# Altium integrated library NSC Switcher.IntLib: 916 symbols (part 5 of 23)
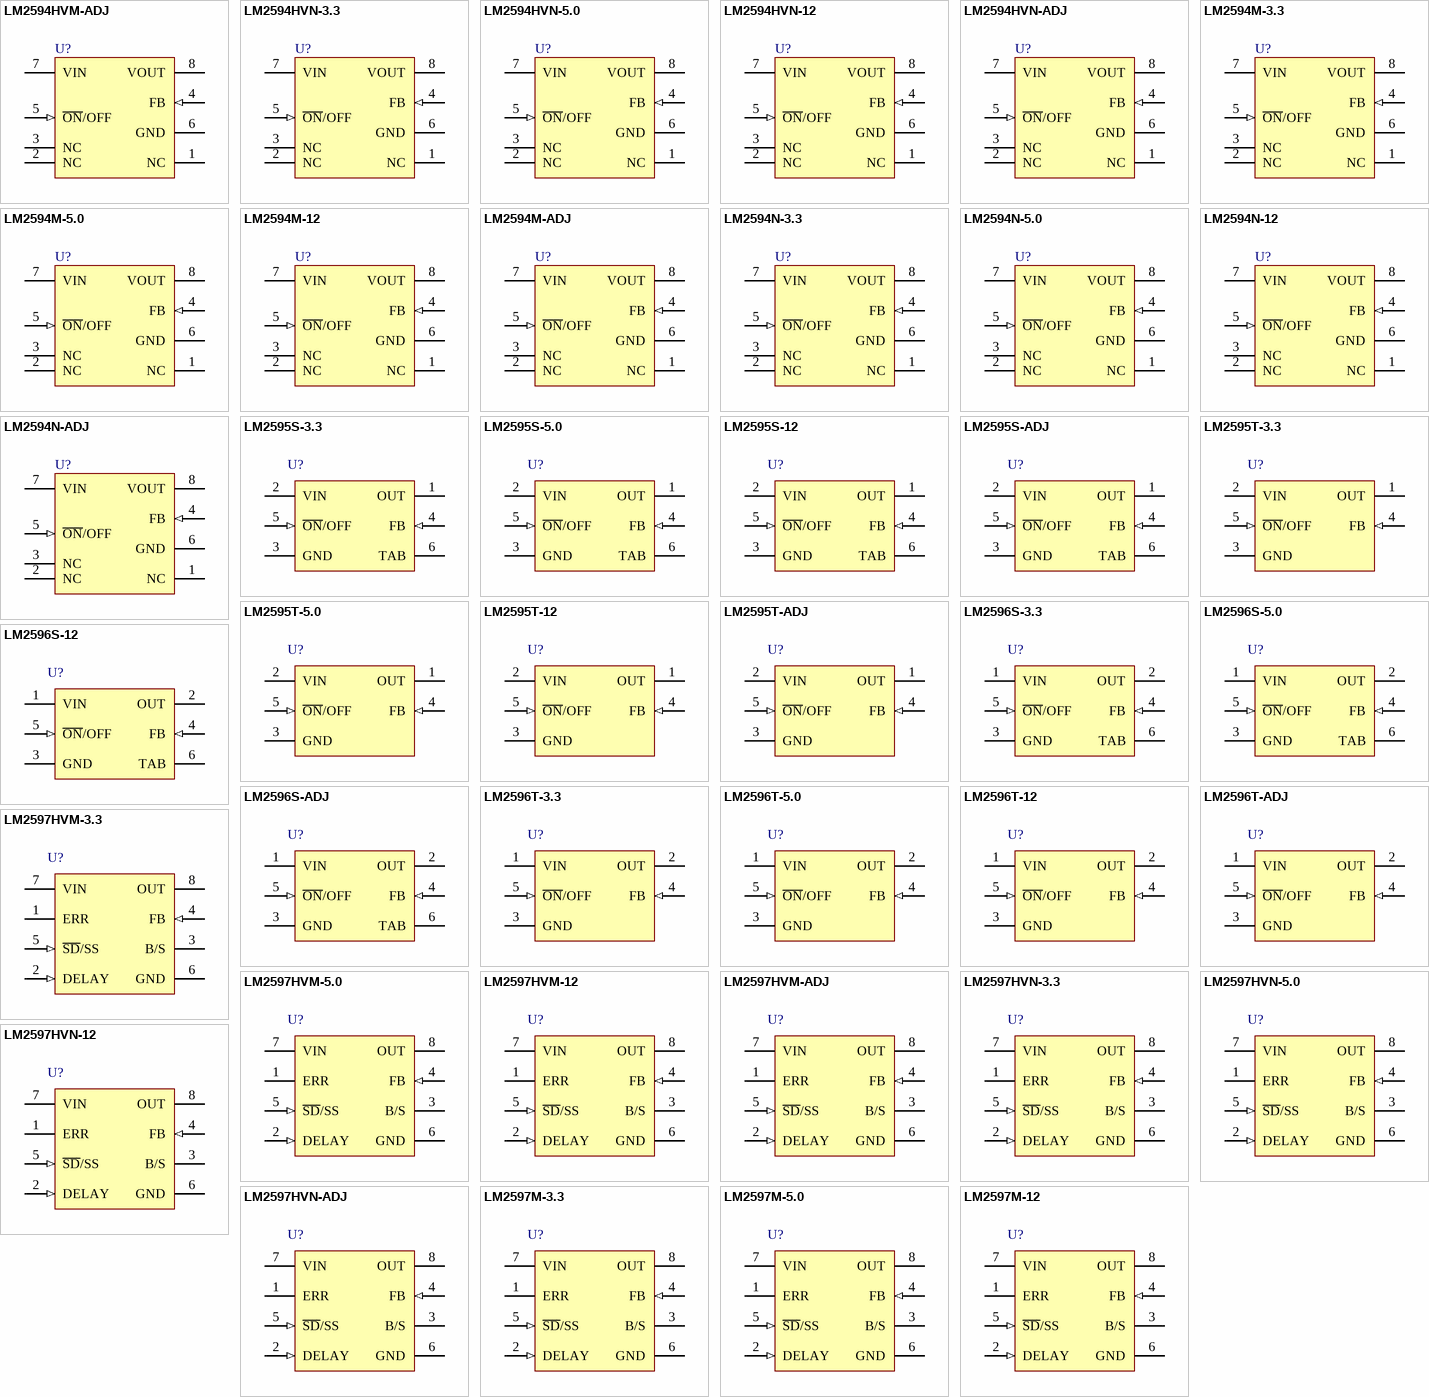
[diagram p32: symbols LM2594HVM-ADJ to LM2597M-12]

## LM2594N-5.0
designator U?
SIMPLE SWITCHER Power Converter 150 KHz 0.5A Step-Down Voltage Regulator; PartNumber: LM2594N-5.0; Manufacturer: National Semiconductor; PackageTopMarking: NSUZXYTT*LM2594N*-5.0 P+; PowerWise: N; Published: 4-Dec-2008; DatasheetVersion: Dec-1999; PackageVersion: revG, May-2006; PackageReference: N08E; Publisher: Altium Limited; PackageDescription: MDIP, .365 x .250 x .130in, 8 Lead, .100in Pitch; CompType: Switcher; RoHS: O; PinCount: 8; DigiKeyPartNumber: LM2594N-5.0-ND; Code_JEDEC: MS-001-BA; ComponentLink1Description: LM2594 Datasheet; ComponentLink1URL: http://www.national.com/ds/LM/LM2594.pdf; ComponentLink2Description: LM2594 Web Page; ComponentLink2URL: http://www.national.com/pf/LM/LM2594.html; ComponentLink3Description: N08E Package Page; ComponentLink3URL: http://www.national.com/packaging/folders/n08e.html
footprint N08E (DIP, 8-Leads, Row Spacing 7.62mm, Pitch 2.54mm, Body 9.91x6.35mm)
pins: 1 NC, 2 NC, 3 NC, 4 FB (in), 5 ~{ON}/OFF (in), 6 GND (power), 7 VIN (power), 8 VOUT (power)

## LM2594N-12
designator U?
SIMPLE SWITCHER Power Converter 150 KHz 0.5A Step-Down Voltage Regulator; PartNumber: LM2594N-12; Manufacturer: National Semiconductor; PackageTopMarking: NSUZXYTT*LM2594N*-12 P+; PowerWise: N; Published: 4-Dec-2008; DatasheetVersion: Dec-1999; PackageVersion: revG, May-2006; PackageReference: N08E; Publisher: Altium Limited; PackageDescription: MDIP, .365 x .250 x .130in, 8 Lead, .100in Pitch; CompType: Switcher; RoHS: O; PinCount: 8; DigiKeyPartNumber: LM2594N-12-ND; Code_JEDEC: MS-001-BA; ComponentLink1Description: LM2594 Datasheet; ComponentLink1URL: http://www.national.com/ds/LM/LM2594.pdf; ComponentLink2Description: LM2594 Web Page; ComponentLink2URL: http://www.national.com/pf/LM/LM2594.html; ComponentLink3Description: N08E Package Page; ComponentLink3URL: http://www.national.com/packaging/folders/n08e.html
footprint N08E (DIP, 8-Leads, Row Spacing 7.62mm, Pitch 2.54mm, Body 9.91x6.35mm)
pins: 1 NC, 2 NC, 3 NC, 4 FB (in), 5 ~{ON}/OFF (in), 6 GND (power), 7 VIN (power), 8 VOUT (power)

## LM2594N-ADJ
designator U?
SIMPLE SWITCHER Power Converter 150 KHz 0.5A Step-Down Voltage Regulator; PartNumber: LM2594N-ADJ; Manufacturer: National Semiconductor; PackageTopMarking: NSUZXYTT*LM2594N*-ADJ P+; PowerWise: N; Published: 4-Dec-2008; DatasheetVersion: Dec-1999; PackageVersion: revG, May-2006; PackageReference: N08E; Publisher: Altium Limited; PackageDescription: MDIP, .365 x .250 x .130in, 8 Lead, .100in Pitch; CompType: Switcher; RoHS: O; PinCount: 8; DigiKeyPartNumber: LM2594N-ADJ-ND; Code_JEDEC: MS-001-BA; ComponentLink1Description: LM2594 Datasheet; ComponentLink1URL: http://www.national.com/ds/LM/LM2594.pdf; ComponentLink2Description: LM2594 Web Page; ComponentLink2URL: http://www.national.com/pf/LM/LM2594.html; ComponentLink3Description: N08E Package Page; ComponentLink3URL: http://www.national.com/packaging/folders/n08e.html
footprint N08E (DIP, 8-Leads, Row Spacing 7.62mm, Pitch 2.54mm, Body 9.91x6.35mm)
pins: 1 NC, 2 NC, 3 NC, 4 FB (in), 5 ~{ON}/OFF (in), 6 GND (power), 7 VIN (power), 8 VOUT (power)

## LM2595S-3.3
designator U?
SIMPLE SWITCHER Power Converter 150 KHz 1A Step-Down Voltage Regulator; PartNumber: LM2595S-3.3; Manufacturer: National Semiconductor; PackageTopMarking: NSUZXYTT*LM2595S*-3.3 P+; PowerWise: N; Published: 4-Dec-2008; DatasheetVersion: May-1999; PackageVersion: revD, Apr-2005; PackageReference: TS5B; Publisher: Altium Limited; PackageDescription: TO-263, Molded, .400 x .390 x .180in, 5 Lead, .067in Pitch, Surface Mount; CompType: Switcher; RoHS: O; PinCount: 5; DigiKeyPartNumber: LM2595S-3.3-ND; Code_JEDEC: MO-169-AB; ComponentLink1Description: LM2595 Datasheet; ComponentLink1URL: http://www.national.com/ds/LM/LM2595.pdf; ComponentLink2Description: LM2595 Web Page; ComponentLink2URL: http://www.national.com/pf/LM/LM2595.html; ComponentLink3Description: TS5B Package Page; ComponentLink3URL: http://www.national.com/packaging/folders/ts5b.html
footprint TS5B_N (D2-PAK, 6-Leads, Body 8.6x10.2mm, Pitch 1.7mm, Lead Span 14.1mm, IPC Medium Density)
footprint TS5B_L (D2-PAK, 6-Leads, Body 8.6x10.2mm, Pitch 1.7mm, Lead Span 14.1mm, IPC High Density)
footprint TS5B_M (D2-PAK, 6-Leads, Body 8.6x10.2mm, Pitch 1.7mm, Lead Span 14.1mm, IPC Low Density)
footprint TS5B_M (D2-PAK, 6-Leads, Body 8.6x10.2mm, Pitch 1.7mm, Lead Span 14.1mm, IPC Low Density)
pins: 1 OUT (power), 2 VIN (power), 3 GND (power), 4 FB (in), 5 ~{ON}/OFF (in), 6 TAB (power)

## LM2595S-5.0
designator U?
SIMPLE SWITCHER Power Converter 150 KHz 1A Step-Down Voltage Regulator; PartNumber: LM2595S-5.0; Manufacturer: National Semiconductor; PackageTopMarking: NSUZXYTT*LM2595S*-5.0 P+; PowerWise: N; Published: 4-Dec-2008; DatasheetVersion: May-1999; PackageVersion: revD, Apr-2005; PackageReference: TS5B; Publisher: Altium Limited; PackageDescription: TO-263, Molded, .400 x .390 x .180in, 5 Lead, .067in Pitch, Surface Mount; CompType: Switcher; RoHS: O; PinCount: 5; DigiKeyPartNumber: LM2595S-5.0-ND; Code_JEDEC: MO-169-AB; ComponentLink1Description: LM2595 Datasheet; ComponentLink1URL: http://www.national.com/ds/LM/LM2595.pdf; ComponentLink2Description: LM2595 Web Page; ComponentLink2URL: http://www.national.com/pf/LM/LM2595.html; ComponentLink3Description: TS5B Package Page; ComponentLink3URL: http://www.national.com/packaging/folders/ts5b.html
footprint TS5B_N (D2-PAK, 6-Leads, Body 8.6x10.2mm, Pitch 1.7mm, Lead Span 14.1mm, IPC Medium Density)
footprint TS5B_L (D2-PAK, 6-Leads, Body 8.6x10.2mm, Pitch 1.7mm, Lead Span 14.1mm, IPC High Density)
footprint TS5B_M (D2-PAK, 6-Leads, Body 8.6x10.2mm, Pitch 1.7mm, Lead Span 14.1mm, IPC Low Density)
footprint TS5B_M (D2-PAK, 6-Leads, Body 8.6x10.2mm, Pitch 1.7mm, Lead Span 14.1mm, IPC Low Density)
pins: 1 OUT (power), 2 VIN (power), 3 GND (power), 4 FB (in), 5 ~{ON}/OFF (in), 6 TAB (power)

## LM2595S-12
designator U?
SIMPLE SWITCHER Power Converter 150 KHz 1A Step-Down Voltage Regulator; PartNumber: LM2595S-12; Manufacturer: National Semiconductor; PackageTopMarking: NSUZXYTT*LM2595S*-12 P+; PowerWise: N; Published: 4-Dec-2008; DatasheetVersion: May-1999; PackageVersion: revD, Apr-2005; PackageReference: TS5B; Publisher: Altium Limited; PackageDescription: TO-263, Molded, .400 x .390 x .180in, 5 Lead, .067in Pitch, Surface Mount; CompType: Switcher; RoHS: O; PinCount: 5; DigiKeyPartNumber: LM2595S-12-ND; Code_JEDEC: MO-169-AB; ComponentLink1Description: LM2595 Datasheet; ComponentLink1URL: http://www.national.com/ds/LM/LM2595.pdf; ComponentLink2Description: LM2595 Web Page; ComponentLink2URL: http://www.national.com/pf/LM/LM2595.html; ComponentLink3Description: TS5B Package Page; ComponentLink3URL: http://www.national.com/packaging/folders/ts5b.html
footprint TS5B_N (D2-PAK, 6-Leads, Body 8.6x10.2mm, Pitch 1.7mm, Lead Span 14.1mm, IPC Medium Density)
footprint TS5B_L (D2-PAK, 6-Leads, Body 8.6x10.2mm, Pitch 1.7mm, Lead Span 14.1mm, IPC High Density)
footprint TS5B_M (D2-PAK, 6-Leads, Body 8.6x10.2mm, Pitch 1.7mm, Lead Span 14.1mm, IPC Low Density)
footprint TS5B_M (D2-PAK, 6-Leads, Body 8.6x10.2mm, Pitch 1.7mm, Lead Span 14.1mm, IPC Low Density)
pins: 1 OUT (power), 2 VIN (power), 3 GND (power), 4 FB (in), 5 ~{ON}/OFF (in), 6 TAB (power)

## LM2595S-ADJ
designator U?
SIMPLE SWITCHER Power Converter 150 KHz 1A Step-Down Voltage Regulator; PartNumber: LM2595S-ADJ; Manufacturer: National Semiconductor; PackageTopMarking: NSUZXYTT*LM2595S*-ADJ P+; PowerWise: N; Published: 4-Dec-2008; DatasheetVersion: May-1999; PackageVersion: revD, Apr-2005; PackageReference: TS5B; Publisher: Altium Limited; PackageDescription: TO-263, Molded, .400 x .390 x .180in, 5 Lead, .067in Pitch, Surface Mount; CompType: Switcher; RoHS: O; PinCount: 5; DigiKeyPartNumber: LM2595S-ADJ-ND; Code_JEDEC: MO-169-AB; ComponentLink1Description: LM2595 Datasheet; ComponentLink1URL: http://www.national.com/ds/LM/LM2595.pdf; ComponentLink2Description: LM2595 Web Page; ComponentLink2URL: http://www.national.com/pf/LM/LM2595.html; ComponentLink3Description: TS5B Package Page; ComponentLink3URL: http://www.national.com/packaging/folders/ts5b.html
footprint TS5B_N (D2-PAK, 6-Leads, Body 8.6x10.2mm, Pitch 1.7mm, Lead Span 14.1mm, IPC Medium Density)
footprint TS5B_L (D2-PAK, 6-Leads, Body 8.6x10.2mm, Pitch 1.7mm, Lead Span 14.1mm, IPC High Density)
footprint TS5B_M (D2-PAK, 6-Leads, Body 8.6x10.2mm, Pitch 1.7mm, Lead Span 14.1mm, IPC Low Density)
footprint TS5B_M (D2-PAK, 6-Leads, Body 8.6x10.2mm, Pitch 1.7mm, Lead Span 14.1mm, IPC Low Density)
pins: 1 OUT (power), 2 VIN (power), 3 GND (power), 4 FB (in), 5 ~{ON}/OFF (in), 6 TAB (power)

## LM2595T-3.3
designator U?
SIMPLE SWITCHER Power Converter 150 KHz 1A Step-Down Voltage Regulator; PartNumber: LM2595T-3.3; Manufacturer: National Semiconductor; PackageTopMarking: NSUZXYTT*LM2595T*-3.3 P+; PowerWise: N; Published: 4-Dec-2008; DatasheetVersion: May-1999; PackageVersion: revA, Oct-1989; PackageReference: T05D; Publisher: Altium Limited; PackageDescription: TO-220, Molded, Stagger Bend, 5 Lead; CompType: Switcher; RoHS: Y; PinCount: 5; DigiKeyPartNumber: LM2595T-3.3-ND; ComponentLink1Description: LM2595 Datasheet; ComponentLink1URL: http://www.national.com/ds/LM/LM2595.pdf; ComponentLink2Description: LM2595 Web Page; ComponentLink2URL: http://www.national.com/pf/LM/LM2595.html; ComponentLink3Description: T05D Package Page; ComponentLink3URL: http://www.national.com/packaging/folders/t05d.html
footprint T05D (TO, Thru-Hole, Vertical, Heatsink Mounted; 5 Bent Staggered Leads; Pitch 1.7 mm)
pins: 1 OUT (power), 2 VIN (power), 3 GND (power), 4 FB (in), 5 ~{ON}/OFF (in)

## LM2595T-5.0
designator U?
SIMPLE SWITCHER Power Converter 150 KHz 1A Step-Down Voltage Regulator; PartNumber: LM2595T-5.0; Manufacturer: National Semiconductor; PackageTopMarking: NSUZXYTT*LM2595T*-5.0 P+; PowerWise: N; Published: 4-Dec-2008; DatasheetVersion: May-1999; PackageVersion: revA, Oct-1989; PackageReference: T05D; Publisher: Altium Limited; PackageDescription: TO-220, Molded, Stagger Bend, 5 Lead; CompType: Switcher; RoHS: O; PinCount: 5; DigiKeyPartNumber: LM2595T-5.0-ND; ComponentLink1Description: LM2595 Datasheet; ComponentLink1URL: http://www.national.com/ds/LM/LM2595.pdf; ComponentLink2Description: LM2595 Web Page; ComponentLink2URL: http://www.national.com/pf/LM/LM2595.html; ComponentLink3Description: T05D Package Page; ComponentLink3URL: http://www.national.com/packaging/folders/t05d.html
footprint T05D (TO, Thru-Hole, Vertical, Heatsink Mounted; 5 Bent Staggered Leads; Pitch 1.7 mm)
pins: 1 OUT (power), 2 VIN (power), 3 GND (power), 4 FB (in), 5 ~{ON}/OFF (in)

## LM2595T-12
designator U?
SIMPLE SWITCHER Power Converter 150 KHz 1A Step-Down Voltage Regulator; PartNumber: LM2595T-12; Manufacturer: National Semiconductor; PackageTopMarking: NSUZXYTT*LM2595T*-12 P+; PowerWise: N; Published: 4-Dec-2008; DatasheetVersion: May-1999; PackageVersion: revA, Oct-1989; PackageReference: T05D; Publisher: Altium Limited; PackageDescription: TO-220, Molded, Stagger Bend, 5 Lead; CompType: Switcher; RoHS: O; PinCount: 5; DigiKeyPartNumber: LM2595T-12-ND; ComponentLink1Description: LM2595 Datasheet; ComponentLink1URL: http://www.national.com/ds/LM/LM2595.pdf; ComponentLink2Description: LM2595 Web Page; ComponentLink2URL: http://www.national.com/pf/LM/LM2595.html; ComponentLink3Description: T05D Package Page; ComponentLink3URL: http://www.national.com/packaging/folders/t05d.html
footprint T05D (TO, Thru-Hole, Vertical, Heatsink Mounted; 5 Bent Staggered Leads; Pitch 1.7 mm)
pins: 1 OUT (power), 2 VIN (power), 3 GND (power), 4 FB (in), 5 ~{ON}/OFF (in)

## LM2595T-ADJ
designator U?
SIMPLE SWITCHER Power Converter 150 KHz 1A Step-Down Voltage Regulator; PartNumber: LM2595T-ADJ; Manufacturer: National Semiconductor; PackageTopMarking: NSUZXYTT*LM2595T*-ADJ P+; PowerWise: N; Published: 4-Dec-2008; DatasheetVersion: May-1999; PackageVersion: revA, Oct-1989; PackageReference: T05D; Publisher: Altium Limited; PackageDescription: TO-220, Molded, Stagger Bend, 5 Lead; CompType: Switcher; RoHS: O; PinCount: 5; DigiKeyPartNumber: LM2595T-ADJ-ND; ComponentLink1Description: LM2595 Datasheet; ComponentLink1URL: http://www.national.com/ds/LM/LM2595.pdf; ComponentLink2Description: LM2595 Web Page; ComponentLink2URL: http://www.national.com/pf/LM/LM2595.html; ComponentLink3Description: T05D Package Page; ComponentLink3URL: http://www.national.com/packaging/folders/t05d.html
footprint T05D (TO, Thru-Hole, Vertical, Heatsink Mounted; 5 Bent Staggered Leads; Pitch 1.7 mm)
pins: 1 OUT (power), 2 VIN (power), 3 GND (power), 4 FB (in), 5 ~{ON}/OFF (in)

## LM2596S-3.3
designator U?
SIMPLE SWITCHER Power Converter 150 KHz 3A Step-Down Voltage Regulator; PartNumber: LM2596S-3.3; Manufacturer: National Semiconductor; PackageTopMarking: NSUZXYTT*LM2596S*-3.3 P+; PowerWise: N; Published: 4-Dec-2008; DatasheetVersion: May-2002; PackageVersion: revD, Apr-2005; PackageReference: TS5B; Publisher: Altium Limited; PackageDescription: TO-263, Molded, .400 x .390 x .180in, 5 Lead, .067in Pitch, Surface Mount; CompType: Switcher; RoHS: O; PinCount: 5; DigiKeyPartNumber: LM2596S-3.3-ND; Code_JEDEC: MO-169-AB; ComponentLink1Description: LM2596 Datasheet; ComponentLink1URL: http://www.national.com/ds/LM/LM2596.pdf; ComponentLink2Description: LM2596 Web Page; ComponentLink2URL: http://www.national.com/pf/LM/LM2596.html; ComponentLink3Description: TS5B Package Page; ComponentLink3URL: http://www.national.com/packaging/folders/ts5b.html
footprint TS5B_N (D2-PAK, 6-Leads, Body 8.6x10.2mm, Pitch 1.7mm, Lead Span 14.1mm, IPC Medium Density)
footprint TS5B_L (D2-PAK, 6-Leads, Body 8.6x10.2mm, Pitch 1.7mm, Lead Span 14.1mm, IPC High Density)
footprint TS5B_M (D2-PAK, 6-Leads, Body 8.6x10.2mm, Pitch 1.7mm, Lead Span 14.1mm, IPC Low Density)
footprint TS5B_M (D2-PAK, 6-Leads, Body 8.6x10.2mm, Pitch 1.7mm, Lead Span 14.1mm, IPC Low Density)
pins: 1 VIN (power), 2 OUT (power), 3 GND (power), 4 FB (in), 5 ~{ON}/OFF (in), 6 TAB (power)

## LM2596S-5.0
designator U?
SIMPLE SWITCHER Power Converter 150 KHz 3A Step-Down Voltage Regulator; PartNumber: LM2596S-5.0; Manufacturer: National Semiconductor; PackageTopMarking: NSUZXYTT*LM2596S*-5.0 P+; PowerWise: N; Published: 4-Dec-2008; DatasheetVersion: May-2002; PackageVersion: revD, Apr-2005; PackageReference: TS5B; Publisher: Altium Limited; PackageDescription: TO-263, Molded, .400 x .390 x .180in, 5 Lead, .067in Pitch, Surface Mount; CompType: Switcher; RoHS: O; PinCount: 5; DigiKeyPartNumber: LM2596S-5.0-ND; Code_JEDEC: MO-169-AB; ComponentLink1Description: LM2596 Datasheet; ComponentLink1URL: http://www.national.com/ds/LM/LM2596.pdf; ComponentLink2Description: LM2596 Web Page; ComponentLink2URL: http://www.national.com/pf/LM/LM2596.html; ComponentLink3Description: TS5B Package Page; ComponentLink3URL: http://www.national.com/packaging/folders/ts5b.html
footprint TS5B_N (D2-PAK, 6-Leads, Body 8.6x10.2mm, Pitch 1.7mm, Lead Span 14.1mm, IPC Medium Density)
footprint TS5B_L (D2-PAK, 6-Leads, Body 8.6x10.2mm, Pitch 1.7mm, Lead Span 14.1mm, IPC High Density)
footprint TS5B_M (D2-PAK, 6-Leads, Body 8.6x10.2mm, Pitch 1.7mm, Lead Span 14.1mm, IPC Low Density)
footprint TS5B_M (D2-PAK, 6-Leads, Body 8.6x10.2mm, Pitch 1.7mm, Lead Span 14.1mm, IPC Low Density)
pins: 1 VIN (power), 2 OUT (power), 3 GND (power), 4 FB (in), 5 ~{ON}/OFF (in), 6 TAB (power)

## LM2596S-12
designator U?
SIMPLE SWITCHER Power Converter 150 KHz 3A Step-Down Voltage Regulator; PartNumber: LM2596S-12; Manufacturer: National Semiconductor; PackageTopMarking: NSUZXYTT*LM2596S*-12 P+; PowerWise: N; Published: 4-Dec-2008; DatasheetVersion: May-2002; PackageVersion: revD, Apr-2005; PackageReference: TS5B; Publisher: Altium Limited; PackageDescription: TO-263, Molded, .400 x .390 x .180in, 5 Lead, .067in Pitch, Surface Mount; CompType: Switcher; RoHS: O; PinCount: 5; DigiKeyPartNumber: LM2596S-12-ND; Code_JEDEC: MO-169-AB; ComponentLink1Description: LM2596 Datasheet; ComponentLink1URL: http://www.national.com/ds/LM/LM2596.pdf; ComponentLink2Description: LM2596 Web Page; ComponentLink2URL: http://www.national.com/pf/LM/LM2596.html; ComponentLink3Description: TS5B Package Page; ComponentLink3URL: http://www.national.com/packaging/folders/ts5b.html
footprint TS5B_N (D2-PAK, 6-Leads, Body 8.6x10.2mm, Pitch 1.7mm, Lead Span 14.1mm, IPC Medium Density)
footprint TS5B_L (D2-PAK, 6-Leads, Body 8.6x10.2mm, Pitch 1.7mm, Lead Span 14.1mm, IPC High Density)
footprint TS5B_M (D2-PAK, 6-Leads, Body 8.6x10.2mm, Pitch 1.7mm, Lead Span 14.1mm, IPC Low Density)
footprint TS5B_M (D2-PAK, 6-Leads, Body 8.6x10.2mm, Pitch 1.7mm, Lead Span 14.1mm, IPC Low Density)
pins: 1 VIN (power), 2 OUT (power), 3 GND (power), 4 FB (in), 5 ~{ON}/OFF (in), 6 TAB (power)

## LM2596S-ADJ
designator U?
SIMPLE SWITCHER Power Converter 150 KHz 3A Step-Down Voltage Regulator; PartNumber: LM2596S-ADJ; Manufacturer: National Semiconductor; PackageTopMarking: NSUZXYTT*LM2596S*-ADJ P+; PowerWise: N; Published: 4-Dec-2008; DatasheetVersion: May-2002; PackageVersion: revD, Apr-2005; PackageReference: TS5B; Publisher: Altium Limited; PackageDescription: TO-263, Molded, .400 x .390 x .180in, 5 Lead, .067in Pitch, Surface Mount; CompType: Switcher; RoHS: O; PinCount: 5; DigiKeyPartNumber: LM2596S-ADJ-ND; Code_JEDEC: MO-169-AB; ComponentLink1Description: LM2596 Datasheet; ComponentLink1URL: http://www.national.com/ds/LM/LM2596.pdf; ComponentLink2Description: LM2596 Web Page; ComponentLink2URL: http://www.national.com/pf/LM/LM2596.html; ComponentLink3Description: TS5B Package Page; ComponentLink3URL: http://www.national.com/packaging/folders/ts5b.html
footprint TS5B_N (D2-PAK, 6-Leads, Body 8.6x10.2mm, Pitch 1.7mm, Lead Span 14.1mm, IPC Medium Density)
footprint TS5B_L (D2-PAK, 6-Leads, Body 8.6x10.2mm, Pitch 1.7mm, Lead Span 14.1mm, IPC High Density)
footprint TS5B_M (D2-PAK, 6-Leads, Body 8.6x10.2mm, Pitch 1.7mm, Lead Span 14.1mm, IPC Low Density)
footprint TS5B_M (D2-PAK, 6-Leads, Body 8.6x10.2mm, Pitch 1.7mm, Lead Span 14.1mm, IPC Low Density)
pins: 1 VIN (power), 2 OUT (power), 3 GND (power), 4 FB (in), 5 ~{ON}/OFF (in), 6 TAB (power)

## LM2596T-3.3
designator U?
SIMPLE SWITCHER Power Converter 150 KHz 3A Step-Down Voltage Regulator; PartNumber: LM2596T-3.3; Manufacturer: National Semiconductor; PackageTopMarking: NSUZXYTT*LM2596T*-3.3 P+; PowerWise: N; Published: 4-Dec-2008; DatasheetVersion: May-2002; PackageVersion: revA, Oct-1989; PackageReference: T05D; Publisher: Altium Limited; PackageDescription: TO-220, Molded, Stagger Bend, 5 Lead; CompType: Switcher; RoHS: Y; PinCount: 5; DigiKeyPartNumber: LM2596T-3.3-ND; ComponentLink1Description: LM2596 Datasheet; ComponentLink1URL: http://www.national.com/ds/LM/LM2596.pdf; ComponentLink2Description: LM2596 Web Page; ComponentLink2URL: http://www.national.com/pf/LM/LM2596.html; ComponentLink3Description: T05D Package Page; ComponentLink3URL: http://www.national.com/packaging/folders/t05d.html
footprint T05D (TO, Thru-Hole, Vertical, Heatsink Mounted; 5 Bent Staggered Leads; Pitch 1.7 mm)
pins: 1 VIN (power), 2 OUT (power), 3 GND (power), 4 FB (in), 5 ~{ON}/OFF (in)

## LM2596T-5.0
designator U?
SIMPLE SWITCHER Power Converter 150 KHz 3A Step-Down Voltage Regulator; PartNumber: LM2596T-5.0; Manufacturer: National Semiconductor; PackageTopMarking: NSUZXYTT*LM2596T*-5.0 P+; PowerWise: N; Published: 4-Dec-2008; DatasheetVersion: May-2002; PackageVersion: revA, Oct-1989; PackageReference: T05D; Publisher: Altium Limited; PackageDescription: TO-220, Molded, Stagger Bend, 5 Lead; CompType: Switcher; RoHS: O; PinCount: 5; DigiKeyPartNumber: LM2596T-5.0-ND; ComponentLink1Description: LM2596 Datasheet; ComponentLink1URL: http://www.national.com/ds/LM/LM2596.pdf; ComponentLink2Description: LM2596 Web Page; ComponentLink2URL: http://www.national.com/pf/LM/LM2596.html; ComponentLink3Description: T05D Package Page; ComponentLink3URL: http://www.national.com/packaging/folders/t05d.html
footprint T05D (TO, Thru-Hole, Vertical, Heatsink Mounted; 5 Bent Staggered Leads; Pitch 1.7 mm)
pins: 1 VIN (power), 2 OUT (power), 3 GND (power), 4 FB (in), 5 ~{ON}/OFF (in)

## LM2596T-12
designator U?
SIMPLE SWITCHER Power Converter 150 KHz 3A Step-Down Voltage Regulator; PartNumber: LM2596T-12; Manufacturer: National Semiconductor; PackageTopMarking: NSUZXYTT*LM2596T*-12 P+; PowerWise: N; Published: 4-Dec-2008; DatasheetVersion: May-2002; PackageVersion: revA, Oct-1989; PackageReference: T05D; Publisher: Altium Limited; PackageDescription: TO-220, Molded, Stagger Bend, 5 Lead; CompType: Switcher; RoHS: O; PinCount: 5; DigiKeyPartNumber: LM2596T-12-ND; ComponentLink1Description: LM2596 Datasheet; ComponentLink1URL: http://www.national.com/ds/LM/LM2596.pdf; ComponentLink2Description: LM2596 Web Page; ComponentLink2URL: http://www.national.com/pf/LM/LM2596.html; ComponentLink3Description: T05D Package Page; ComponentLink3URL: http://www.national.com/packaging/folders/t05d.html
footprint T05D (TO, Thru-Hole, Vertical, Heatsink Mounted; 5 Bent Staggered Leads; Pitch 1.7 mm)
pins: 1 VIN (power), 2 OUT (power), 3 GND (power), 4 FB (in), 5 ~{ON}/OFF (in)

## LM2596T-ADJ
designator U?
SIMPLE SWITCHER Power Converter 150 KHz 3A Step-Down Voltage Regulator; PartNumber: LM2596T-ADJ; Manufacturer: National Semiconductor; PackageTopMarking: NSUZXYTT*LM2596T*-ADJ P+; PowerWise: N; Published: 4-Dec-2008; DatasheetVersion: May-2002; PackageVersion: revA, Oct-1989; PackageReference: T05D; Publisher: Altium Limited; PackageDescription: TO-220, Molded, Stagger Bend, 5 Lead; CompType: Switcher; RoHS: O; PinCount: 5; DigiKeyPartNumber: LM2596T-ADJ-ND; ComponentLink1Description: LM2596 Datasheet; ComponentLink1URL: http://www.national.com/ds/LM/LM2596.pdf; ComponentLink2Description: LM2596 Web Page; ComponentLink2URL: http://www.national.com/pf/LM/LM2596.html; ComponentLink3Description: T05D Package Page; ComponentLink3URL: http://www.national.com/packaging/folders/t05d.html
footprint T05D (TO, Thru-Hole, Vertical, Heatsink Mounted; 5 Bent Staggered Leads; Pitch 1.7 mm)
pins: 1 VIN (power), 2 OUT (power), 3 GND (power), 4 FB (in), 5 ~{ON}/OFF (in)

## LM2597HVM-3.3
designator U?
SIMPLE SWITCHER Power Converter 150 kHz 0.5A Step-Down Voltage Regulator, with Features; PartNumber: LM2597HVM-3.3; Manufacturer: National Semiconductor; PackageTopMarking: NSZXTT*2597H*M-3.3; PowerWise: N; Published: 4-Dec-2008; DatasheetVersion: Dec-2000; PackageVersion: revL, Sep-2006; PackageReference: M08A; Publisher: Altium Limited; PackageDescription: SOIC Narrow, 4.9 x 3.9 x 1.45mm, 8 Lead, 1.27mm Pitch; CompType: Switcher; RoHS: Y; PinCount: 8; DigiKeyPartNumber: LM2597HVM-3.3-ND; Code_JEDEC: MS-012-AA; Code_IPC: SOIC127P600-8; ComponentLink1Description: LM2597HV Datasheet; ComponentLink1URL: http://www.national.com/ds/LM/LM2597HV.pdf; ComponentLink2Description: LM2597HV Web Page; ComponentLink2URL: http://www.national.com/pf/LM/LM2597HV.html; ComponentLink3Description: M08A Package Page; ComponentLink3URL: http://www.national.com/packaging/folders/m08a.html
footprint M08A_N (SOIC, 8-Leads, Body 4.9x3.9mm, Pitch 1.27mm, IPC Medium Density)
footprint M08A_L (SOIC, 8-Leads, Body 4.9x3.9mm, Pitch 1.27mm, IPC High Density)
footprint M08A_M (SOIC, 8-Leads, Body 4.9x3.9mm, Pitch 1.27mm, IPC Low Density)
pins: 1 ERR (oc), 2 DELAY (in), 3 B/S (power), 4 FB (in), 5 ~{SD}/SS (in), 6 GND (power), 7 VIN (power), 8 OUT (power)

## LM2597HVM-5.0
designator U?
SIMPLE SWITCHER Power Converter 150 kHz 0.5A Step-Down Voltage Regulator, with Features; PartNumber: LM2597HVM-5.0; Manufacturer: National Semiconductor; PackageTopMarking: NSZXTT*2597H*M-5.0; PowerWise: N; Published: 4-Dec-2008; DatasheetVersion: Dec-2000; PackageVersion: revL, Sep-2006; PackageReference: M08A; Publisher: Altium Limited; PackageDescription: SOIC Narrow, 4.9 x 3.9 x 1.45mm, 8 Lead, 1.27mm Pitch; CompType: Switcher; RoHS: O; PinCount: 8; DigiKeyPartNumber: LM2597HVM-5.0-ND; Code_JEDEC: MS-012-AA; Code_IPC: SOIC127P600-8; ComponentLink1Description: LM2597HV Datasheet; ComponentLink1URL: http://www.national.com/ds/LM/LM2597HV.pdf; ComponentLink2Description: LM2597HV Web Page; ComponentLink2URL: http://www.national.com/pf/LM/LM2597HV.html; ComponentLink3Description: M08A Package Page; ComponentLink3URL: http://www.national.com/packaging/folders/m08a.html
footprint M08A_N (SOIC, 8-Leads, Body 4.9x3.9mm, Pitch 1.27mm, IPC Medium Density)
footprint M08A_L (SOIC, 8-Leads, Body 4.9x3.9mm, Pitch 1.27mm, IPC High Density)
footprint M08A_M (SOIC, 8-Leads, Body 4.9x3.9mm, Pitch 1.27mm, IPC Low Density)
pins: 1 ERR (oc), 2 DELAY (in), 3 B/S (power), 4 FB (in), 5 ~{SD}/SS (in), 6 GND (power), 7 VIN (power), 8 OUT (power)

## LM2597HVM-12
designator U?
SIMPLE SWITCHER Power Converter 150 kHz 0.5A Step-Down Voltage Regulator, with Features; PartNumber: LM2597HVM-12; Manufacturer: National Semiconductor; PackageTopMarking: NSZXTT*2597H*M-12; PowerWise: N; Published: 4-Dec-2008; DatasheetVersion: Dec-2000; PackageVersion: revL, Sep-2006; PackageReference: M08A; Publisher: Altium Limited; PackageDescription: SOIC Narrow, 4.9 x 3.9 x 1.45mm, 8 Lead, 1.27mm Pitch; CompType: Switcher; RoHS: O; PinCount: 8; DigiKeyPartNumber: LM2597HVM-12-ND; Code_JEDEC: MS-012-AA; Code_IPC: SOIC127P600-8; ComponentLink1Description: LM2597HV Datasheet; ComponentLink1URL: http://www.national.com/ds/LM/LM2597HV.pdf; ComponentLink2Description: LM2597HV Web Page; ComponentLink2URL: http://www.national.com/pf/LM/LM2597HV.html; ComponentLink3Description: M08A Package Page; ComponentLink3URL: http://www.national.com/packaging/folders/m08a.html
footprint M08A_N (SOIC, 8-Leads, Body 4.9x3.9mm, Pitch 1.27mm, IPC Medium Density)
footprint M08A_L (SOIC, 8-Leads, Body 4.9x3.9mm, Pitch 1.27mm, IPC High Density)
footprint M08A_M (SOIC, 8-Leads, Body 4.9x3.9mm, Pitch 1.27mm, IPC Low Density)
pins: 1 ERR (oc), 2 DELAY (in), 3 B/S (power), 4 FB (in), 5 ~{SD}/SS (in), 6 GND (power), 7 VIN (power), 8 OUT (power)

## LM2597HVM-ADJ
designator U?
SIMPLE SWITCHER Power Converter 150 kHz 0.5A Step-Down Voltage Regulator, with Features; PartNumber: LM2597HVM-ADJ; Manufacturer: National Semiconductor; PackageTopMarking: NSZXTT*2597H*M-ADJ; PowerWise: N; Published: 4-Dec-2008; DatasheetVersion: Dec-2000; PackageVersion: revL, Sep-2006; PackageReference: M08A; Publisher: Altium Limited; PackageDescription: SOIC Narrow, 4.9 x 3.9 x 1.45mm, 8 Lead, 1.27mm Pitch; CompType: Switcher; RoHS: O; PinCount: 8; DigiKeyPartNumber: LM2597HVM-ADJ-ND; Code_JEDEC: MS-012-AA; Code_IPC: SOIC127P600-8; ComponentLink1Description: LM2597HV Datasheet; ComponentLink1URL: http://www.national.com/ds/LM/LM2597HV.pdf; ComponentLink2Description: LM2597HV Web Page; ComponentLink2URL: http://www.national.com/pf/LM/LM2597HV.html; ComponentLink3Description: M08A Package Page; ComponentLink3URL: http://www.national.com/packaging/folders/m08a.html
footprint M08A_N (SOIC, 8-Leads, Body 4.9x3.9mm, Pitch 1.27mm, IPC Medium Density)
footprint M08A_L (SOIC, 8-Leads, Body 4.9x3.9mm, Pitch 1.27mm, IPC High Density)
footprint M08A_M (SOIC, 8-Leads, Body 4.9x3.9mm, Pitch 1.27mm, IPC Low Density)
pins: 1 ERR (oc), 2 DELAY (in), 3 B/S (power), 4 FB (in), 5 ~{SD}/SS (in), 6 GND (power), 7 VIN (power), 8 OUT (power)

## LM2597HVN-3.3
designator U?
SIMPLE SWITCHER Power Converter 150 kHz 0.5A Step-Down Voltage Regulator, with Features; PartNumber: LM2597HVN-3.3; Manufacturer: National Semiconductor; PackageTopMarking: NSUZXYTT*LM2597HV*N-3.3 P+; PowerWise: N; Published: 4-Dec-2008; DatasheetVersion: Dec-2000; PackageVersion: revG, May-2006; PackageReference: N08E; Publisher: Altium Limited; PackageDescription: MDIP, .365 x .250 x .130in, 8 Lead, .100in Pitch; CompType: Switcher; RoHS: Y; PinCount: 8; DigiKeyPartNumber: LM2597HVN-3.3-ND; Code_JEDEC: MS-001-BA; ComponentLink1Description: LM2597HV Datasheet; ComponentLink1URL: http://www.national.com/ds/LM/LM2597HV.pdf; ComponentLink2Description: LM2597HV Web Page; ComponentLink2URL: http://www.national.com/pf/LM/LM2597HV.html; ComponentLink3Description: N08E Package Page; ComponentLink3URL: http://www.national.com/packaging/folders/n08e.html
footprint N08E (DIP, 8-Leads, Row Spacing 7.62mm, Pitch 2.54mm, Body 9.91x6.35mm)
pins: 1 ERR (oc), 2 DELAY (in), 3 B/S (power), 4 FB (in), 5 ~{SD}/SS (in), 6 GND (power), 7 VIN (power), 8 OUT (power)

## LM2597HVN-5.0
designator U?
SIMPLE SWITCHER Power Converter 150 kHz 0.5A Step-Down Voltage Regulator, with Features; PartNumber: LM2597HVN-5.0; Manufacturer: National Semiconductor; PackageTopMarking: NSUZXYTT*LM2597HV*N-5.0 P+; PowerWise: N; Published: 4-Dec-2008; DatasheetVersion: Dec-2000; PackageVersion: revG, May-2006; PackageReference: N08E; Publisher: Altium Limited; PackageDescription: MDIP, .365 x .250 x .130in, 8 Lead, .100in Pitch; CompType: Switcher; RoHS: Y; PinCount: 8; DigiKeyPartNumber: LM2597HVN-5.0-ND; Code_JEDEC: MS-001-BA; ComponentLink1Description: LM2597HV Datasheet; ComponentLink1URL: http://www.national.com/ds/LM/LM2597HV.pdf; ComponentLink2Description: LM2597HV Web Page; ComponentLink2URL: http://www.national.com/pf/LM/LM2597HV.html; ComponentLink3Description: N08E Package Page; ComponentLink3URL: http://www.national.com/packaging/folders/n08e.html
footprint N08E (DIP, 8-Leads, Row Spacing 7.62mm, Pitch 2.54mm, Body 9.91x6.35mm)
pins: 1 ERR (oc), 2 DELAY (in), 3 B/S (power), 4 FB (in), 5 ~{SD}/SS (in), 6 GND (power), 7 VIN (power), 8 OUT (power)

## LM2597HVN-12
designator U?
SIMPLE SWITCHER Power Converter 150 kHz 0.5A Step-Down Voltage Regulator, with Features; PartNumber: LM2597HVN-12; Manufacturer: National Semiconductor; PackageTopMarking: NSUZXYTT*LM2597HV*N-12 P+; PowerWise: N; Published: 4-Dec-2008; DatasheetVersion: Dec-2000; PackageVersion: revG, May-2006; PackageReference: N08E; Publisher: Altium Limited; PackageDescription: MDIP, .365 x .250 x .130in, 8 Lead, .100in Pitch; CompType: Switcher; RoHS: Y; PinCount: 8; DigiKeyPartNumber: LM2597HVN-12-ND; Code_JEDEC: MS-001-BA; ComponentLink1Description: LM2597HV Datasheet; ComponentLink1URL: http://www.national.com/ds/LM/LM2597HV.pdf; ComponentLink2Description: LM2597HV Web Page; ComponentLink2URL: http://www.national.com/pf/LM/LM2597HV.html; ComponentLink3Description: N08E Package Page; ComponentLink3URL: http://www.national.com/packaging/folders/n08e.html
footprint N08E (DIP, 8-Leads, Row Spacing 7.62mm, Pitch 2.54mm, Body 9.91x6.35mm)
pins: 1 ERR (oc), 2 DELAY (in), 3 B/S (power), 4 FB (in), 5 ~{SD}/SS (in), 6 GND (power), 7 VIN (power), 8 OUT (power)

## LM2597HVN-ADJ
designator U?
SIMPLE SWITCHER Power Converter 150 kHz 0.5A Step-Down Voltage Regulator, with Features; PartNumber: LM2597HVN-ADJ; Manufacturer: National Semiconductor; PackageTopMarking: NSUZXYTT*LM2597HV*N-ADJ P+; PowerWise: N; Published: 4-Dec-2008; DatasheetVersion: Dec-2000; PackageVersion: revG, May-2006; PackageReference: N08E; Publisher: Altium Limited; PackageDescription: MDIP, .365 x .250 x .130in, 8 Lead, .100in Pitch; CompType: Switcher; RoHS: O; PinCount: 8; DigiKeyPartNumber: LM2597HVN-ADJ-ND; Code_JEDEC: MS-001-BA; ComponentLink1Description: LM2597HV Datasheet; ComponentLink1URL: http://www.national.com/ds/LM/LM2597HV.pdf; ComponentLink2Description: LM2597HV Web Page; ComponentLink2URL: http://www.national.com/pf/LM/LM2597HV.html; ComponentLink3Description: N08E Package Page; ComponentLink3URL: http://www.national.com/packaging/folders/n08e.html
footprint N08E (DIP, 8-Leads, Row Spacing 7.62mm, Pitch 2.54mm, Body 9.91x6.35mm)
pins: 1 ERR (oc), 2 DELAY (in), 3 B/S (power), 4 FB (in), 5 ~{SD}/SS (in), 6 GND (power), 7 VIN (power), 8 OUT (power)

## LM2597M-3.3
designator U?
SIMPLE SWITCHER Power Converter 150 kHz 0.5A Step-Down Voltage Regulator; PartNumber: LM2597M-3.3; Manufacturer: National Semiconductor; PackageTopMarking: NSZXTT*2597*M-3.3; PowerWise: N; Published: 4-Dec-2008; DatasheetVersion: Dec-2000; PackageVersion: revL, Sep-2006; PackageReference: M08A; Publisher: Altium Limited; PackageDescription: SOIC Narrow, 4.9 x 3.9 x 1.45mm, 8 Lead, 1.27mm Pitch; CompType: Switcher; RoHS: Y; PinCount: 8; DigiKeyPartNumber: LM2597M-3.3-ND; Code_JEDEC: MS-012-AA; Code_IPC: SOIC127P600-8; ComponentLink1Description: LM2597 Datasheet; ComponentLink1URL: http://www.national.com/ds/LM/LM2597.pdf; ComponentLink2Description: LM2597 Web Page; ComponentLink2URL: http://www.national.com/pf/LM/LM2597.html; ComponentLink3Description: M08A Package Page; ComponentLink3URL: http://www.national.com/packaging/folders/m08a.html
footprint M08A_N (SOIC, 8-Leads, Body 4.9x3.9mm, Pitch 1.27mm, IPC Medium Density)
footprint M08A_L (SOIC, 8-Leads, Body 4.9x3.9mm, Pitch 1.27mm, IPC High Density)
footprint M08A_M (SOIC, 8-Leads, Body 4.9x3.9mm, Pitch 1.27mm, IPC Low Density)
pins: 1 ERR (oc), 2 DELAY (in), 3 B/S (power), 4 FB (in), 5 ~{SD}/SS (in), 6 GND (power), 7 VIN (power), 8 OUT (power)

## LM2597M-5.0
designator U?
SIMPLE SWITCHER Power Converter 150 kHz 0.5A Step-Down Voltage Regulator; PartNumber: LM2597M-5.0; Manufacturer: National Semiconductor; PackageTopMarking: NSZXTT*2597*M-5.0; PowerWise: N; Published: 4-Dec-2008; DatasheetVersion: Dec-2000; PackageVersion: revL, Sep-2006; PackageReference: M08A; Publisher: Altium Limited; PackageDescription: SOIC Narrow, 4.9 x 3.9 x 1.45mm, 8 Lead, 1.27mm Pitch; CompType: Switcher; RoHS: O; PinCount: 8; DigiKeyPartNumber: LM2597M-5.0-ND; Code_JEDEC: MS-012-AA; Code_IPC: SOIC127P600-8; ComponentLink1Description: LM2597 Datasheet; ComponentLink1URL: http://www.national.com/ds/LM/LM2597.pdf; ComponentLink2Description: LM2597 Web Page; ComponentLink2URL: http://www.national.com/pf/LM/LM2597.html; ComponentLink3Description: M08A Package Page; ComponentLink3URL: http://www.national.com/packaging/folders/m08a.html
footprint M08A_N (SOIC, 8-Leads, Body 4.9x3.9mm, Pitch 1.27mm, IPC Medium Density)
footprint M08A_L (SOIC, 8-Leads, Body 4.9x3.9mm, Pitch 1.27mm, IPC High Density)
footprint M08A_M (SOIC, 8-Leads, Body 4.9x3.9mm, Pitch 1.27mm, IPC Low Density)
pins: 1 ERR (oc), 2 DELAY (in), 3 B/S (power), 4 FB (in), 5 ~{SD}/SS (in), 6 GND (power), 7 VIN (power), 8 OUT (power)

## LM2597M-12
designator U?
SIMPLE SWITCHER Power Converter 150 kHz 0.5A Step-Down Voltage Regulator; PartNumber: LM2597M-12; Manufacturer: National Semiconductor; PackageTopMarking: NSZXTT*2597*M-12; PowerWise: N; Published: 4-Dec-2008; DatasheetVersion: Dec-2000; PackageVersion: revL, Sep-2006; PackageReference: M08A; Publisher: Altium Limited; PackageDescription: SOIC Narrow, 4.9 x 3.9 x 1.45mm, 8 Lead, 1.27mm Pitch; CompType: Switcher; RoHS: Y; PinCount: 8; DigiKeyPartNumber: LM2597M-12-ND; Code_JEDEC: MS-012-AA; Code_IPC: SOIC127P600-8; ComponentLink1Description: LM2597 Datasheet; ComponentLink1URL: http://www.national.com/ds/LM/LM2597.pdf; ComponentLink2Description: LM2597 Web Page; ComponentLink2URL: http://www.national.com/pf/LM/LM2597.html; ComponentLink3Description: M08A Package Page; ComponentLink3URL: http://www.national.com/packaging/folders/m08a.html
footprint M08A_N (SOIC, 8-Leads, Body 4.9x3.9mm, Pitch 1.27mm, IPC Medium Density)
footprint M08A_L (SOIC, 8-Leads, Body 4.9x3.9mm, Pitch 1.27mm, IPC High Density)
footprint M08A_M (SOIC, 8-Leads, Body 4.9x3.9mm, Pitch 1.27mm, IPC Low Density)
pins: 1 ERR (oc), 2 DELAY (in), 3 B/S (power), 4 FB (in), 5 ~{SD}/SS (in), 6 GND (power), 7 VIN (power), 8 OUT (power)

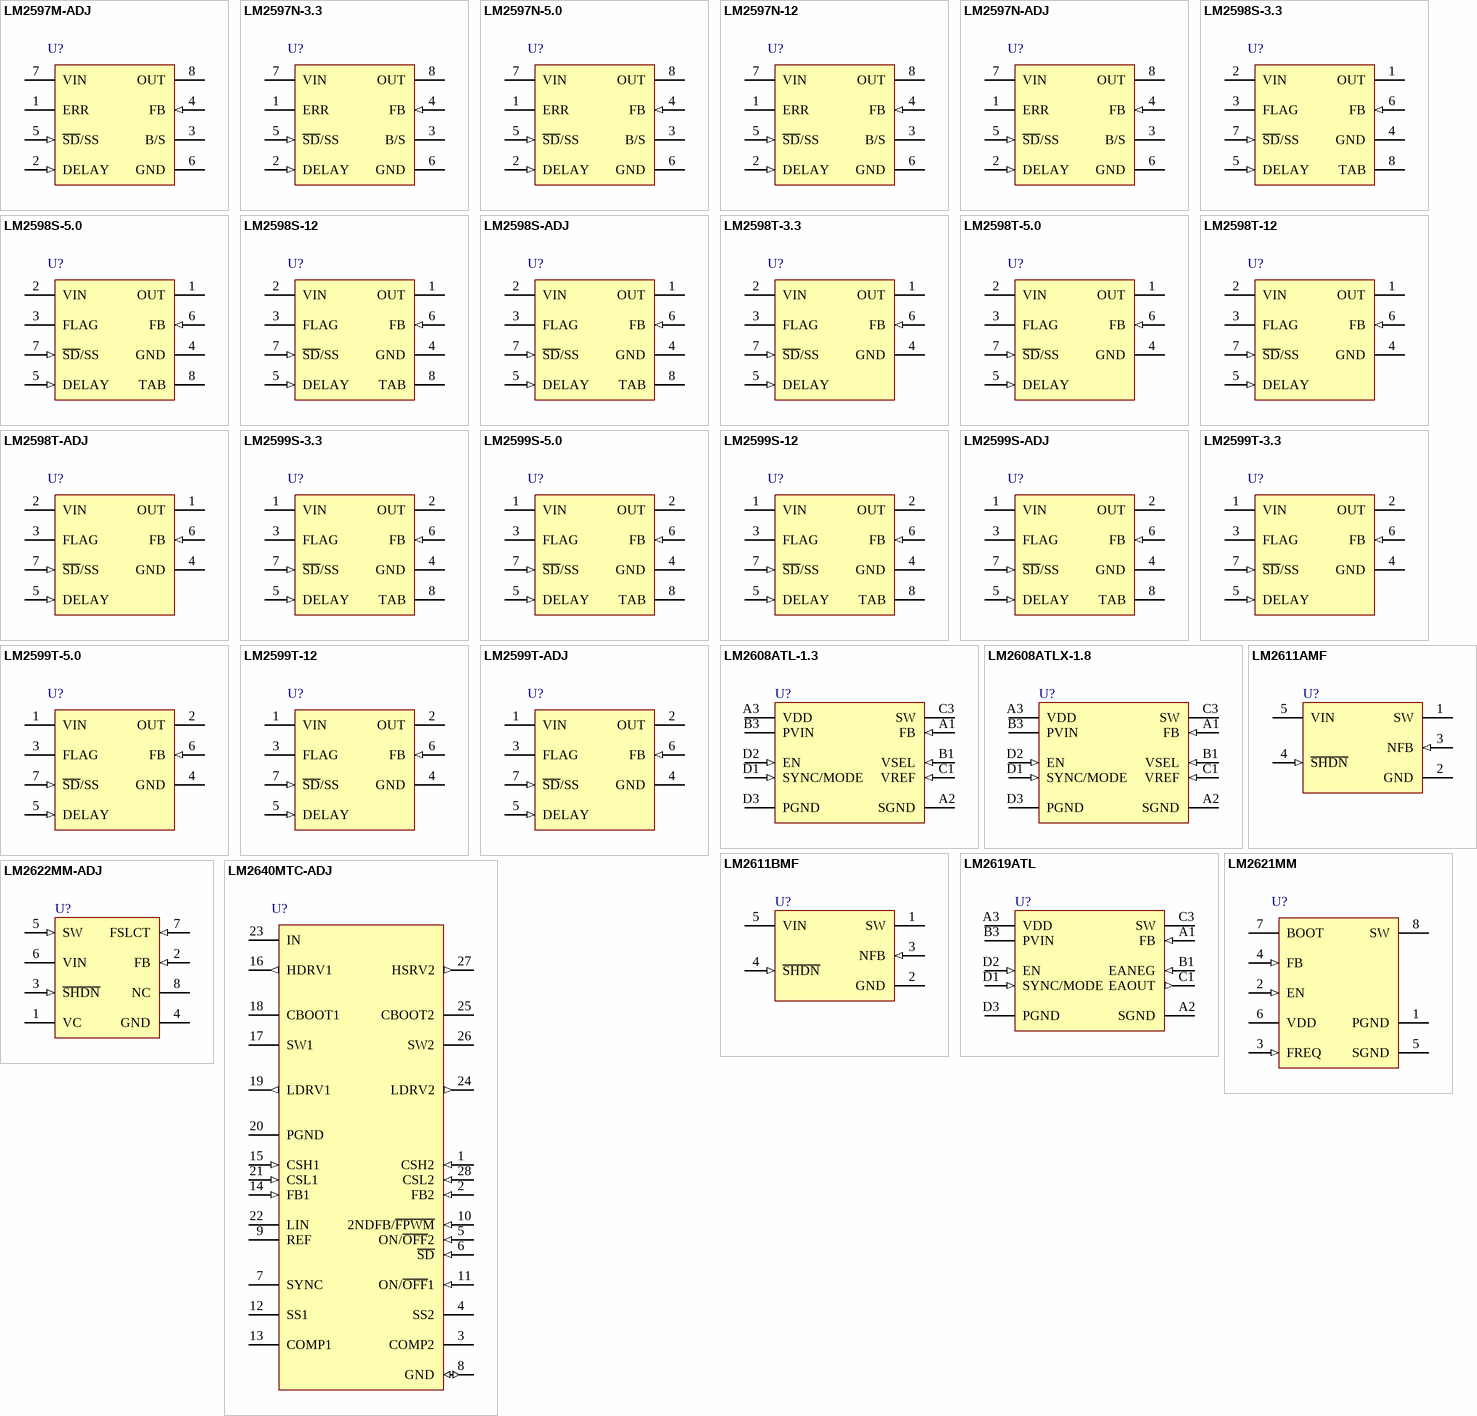
[diagram p5: symbols LM2597M-ADJ to LM2640MTC-ADJ]

## LM2597M-ADJ
designator U?
SIMPLE SWITCHER Power Converter 150 kHz 0.5A Step-Down Voltage Regulator; PartNumber: LM2597M-ADJ; Manufacturer: National Semiconductor; PackageTopMarking: NSZXTT*2597*M-ADJ; PowerWise: N; Published: 4-Dec-2008; DatasheetVersion: Dec-2000; PackageVersion: revL, Sep-2006; PackageReference: M08A; Publisher: Altium Limited; PackageDescription: SOIC Narrow, 4.9 x 3.9 x 1.45mm, 8 Lead, 1.27mm Pitch; CompType: Switcher; RoHS: Y; PinCount: 8; DigiKeyPartNumber: LM2597M-ADJ-ND; Code_JEDEC: MS-012-AA; Code_IPC: SOIC127P600-8; ComponentLink1Description: LM2597 Datasheet; ComponentLink1URL: http://www.national.com/ds/LM/LM2597.pdf; ComponentLink2Description: LM2597 Web Page; ComponentLink2URL: http://www.national.com/pf/LM/LM2597.html; ComponentLink3Description: M08A Package Page; ComponentLink3URL: http://www.national.com/packaging/folders/m08a.html
footprint M08A_N (SOIC, 8-Leads, Body 4.9x3.9mm, Pitch 1.27mm, IPC Medium Density)
footprint M08A_L (SOIC, 8-Leads, Body 4.9x3.9mm, Pitch 1.27mm, IPC High Density)
footprint M08A_M (SOIC, 8-Leads, Body 4.9x3.9mm, Pitch 1.27mm, IPC Low Density)
pins: 1 ERR (oc), 2 DELAY (in), 3 B/S (power), 4 FB (in), 5 ~{SD}/SS (in), 6 GND (power), 7 VIN (power), 8 OUT (power)

## LM2597N-3.3
designator U?
SIMPLE SWITCHER Power Converter 150 kHz 0.5A Step-Down Voltage Regulator; PartNumber: LM2597N-3.3; Manufacturer: National Semiconductor; PackageTopMarking: NSUZXYTT*LM2597N*-3.3 P+; PowerWise: N; Published: 4-Dec-2008; DatasheetVersion: Dec-2000; PackageVersion: revG, May-2006; PackageReference: N08E; Publisher: Altium Limited; PackageDescription: MDIP, .365 x .250 x .130in, 8 Lead, .100in Pitch; CompType: Switcher; RoHS: Y; PinCount: 8; DigiKeyPartNumber: LM2597N-3.3-ND; Code_JEDEC: MS-001-BA; ComponentLink1Description: LM2597 Datasheet; ComponentLink1URL: http://www.national.com/ds/LM/LM2597.pdf; ComponentLink2Description: LM2597 Web Page; ComponentLink2URL: http://www.national.com/pf/LM/LM2597.html; ComponentLink3Description: N08E Package Page; ComponentLink3URL: http://www.national.com/packaging/folders/n08e.html
footprint N08E (DIP, 8-Leads, Row Spacing 7.62mm, Pitch 2.54mm, Body 9.91x6.35mm)
pins: 1 ERR (oc), 2 DELAY (in), 3 B/S (power), 4 FB (in), 5 ~{SD}/SS (in), 6 GND (power), 7 VIN (power), 8 OUT (power)

## LM2597N-5.0
designator U?
SIMPLE SWITCHER Power Converter 150 kHz 0.5A Step-Down Voltage Regulator; PartNumber: LM2597N-5.0; Manufacturer: National Semiconductor; PackageTopMarking: NSUZXYTT*LM2597N*-5.0 P+; PowerWise: N; Published: 4-Dec-2008; DatasheetVersion: Dec-2000; PackageVersion: revG, May-2006; PackageReference: N08E; Publisher: Altium Limited; PackageDescription: MDIP, .365 x .250 x .130in, 8 Lead, .100in Pitch; CompType: Switcher; RoHS: O; PinCount: 8; DigiKeyPartNumber: LM2597N-5.0-ND; Code_JEDEC: MS-001-BA; ComponentLink1Description: LM2597 Datasheet; ComponentLink1URL: http://www.national.com/ds/LM/LM2597.pdf; ComponentLink2Description: LM2597 Web Page; ComponentLink2URL: http://www.national.com/pf/LM/LM2597.html; ComponentLink3Description: N08E Package Page; ComponentLink3URL: http://www.national.com/packaging/folders/n08e.html
footprint N08E (DIP, 8-Leads, Row Spacing 7.62mm, Pitch 2.54mm, Body 9.91x6.35mm)
pins: 1 ERR (oc), 2 DELAY (in), 3 B/S (power), 4 FB (in), 5 ~{SD}/SS (in), 6 GND (power), 7 VIN (power), 8 OUT (power)

## LM2597N-12
designator U?
SIMPLE SWITCHER Power Converter 150 kHz 0.5A Step-Down Voltage Regulator; PartNumber: LM2597N-12; Manufacturer: National Semiconductor; PackageTopMarking: NSUZXYTT*LM2597N*-12 P+; PowerWise: N; Published: 4-Dec-2008; DatasheetVersion: Dec-2000; PackageVersion: revG, May-2006; PackageReference: N08E; Publisher: Altium Limited; PackageDescription: MDIP, .365 x .250 x .130in, 8 Lead, .100in Pitch; CompType: Switcher; RoHS: Y; PinCount: 8; DigiKeyPartNumber: LM2597N-12-ND; Code_JEDEC: MS-001-BA; ComponentLink1Description: LM2597 Datasheet; ComponentLink1URL: http://www.national.com/ds/LM/LM2597.pdf; ComponentLink2Description: LM2597 Web Page; ComponentLink2URL: http://www.national.com/pf/LM/LM2597.html; ComponentLink3Description: N08E Package Page; ComponentLink3URL: http://www.national.com/packaging/folders/n08e.html
footprint N08E (DIP, 8-Leads, Row Spacing 7.62mm, Pitch 2.54mm, Body 9.91x6.35mm)
pins: 1 ERR (oc), 2 DELAY (in), 3 B/S (power), 4 FB (in), 5 ~{SD}/SS (in), 6 GND (power), 7 VIN (power), 8 OUT (power)

## LM2597N-ADJ
designator U?
SIMPLE SWITCHER Power Converter 150 kHz 0.5A Step-Down Voltage Regulator; PartNumber: LM2597N-ADJ; Manufacturer: National Semiconductor; PackageTopMarking: NSUZXYTT*LM2597N*-ADJ P+; PowerWise: N; Published: 4-Dec-2008; DatasheetVersion: Dec-2000; PackageVersion: revG, May-2006; PackageReference: N08E; Publisher: Altium Limited; PackageDescription: MDIP, .365 x .250 x .130in, 8 Lead, .100in Pitch; CompType: Switcher; RoHS: O; PinCount: 8; DigiKeyPartNumber: LM2597N-ADJ-ND; Code_JEDEC: MS-001-BA; ComponentLink1Description: LM2597 Datasheet; ComponentLink1URL: http://www.national.com/ds/LM/LM2597.pdf; ComponentLink2Description: LM2597 Web Page; ComponentLink2URL: http://www.national.com/pf/LM/LM2597.html; ComponentLink3Description: N08E Package Page; ComponentLink3URL: http://www.national.com/packaging/folders/n08e.html
footprint N08E (DIP, 8-Leads, Row Spacing 7.62mm, Pitch 2.54mm, Body 9.91x6.35mm)
pins: 1 ERR (oc), 2 DELAY (in), 3 B/S (power), 4 FB (in), 5 ~{SD}/SS (in), 6 GND (power), 7 VIN (power), 8 OUT (power)

## LM2598S-3.3
designator U?
SIMPLE SWITCHER Power Converter 150 KHz 1A Step-Down Voltage Regulator, with Features; PartNumber: LM2598S-3.3; Manufacturer: National Semiconductor; PackageTopMarking: NSUZXYTT*LM2598S*-3.3 P+; PowerWise: N; Published: 4-Dec-2008; DatasheetVersion: Jan-2001; PackageVersion: revE, Jul-2003; PackageReference: TS7B; Publisher: Altium Limited; PackageDescription: TO-263, Molded, .400 x .390 x .180in Body, 7 Lead, .050in Pitch, Surface Mount; CompType: Switcher; RoHS: Y; PinCount: 7; DigiKeyPartNumber: LM2598S-3.3-ND; Code_JEDEC: MO-169-AC; ComponentLink1Description: LM2598 Datasheet; ComponentLink1URL: http://www.national.com/ds/LM/LM2598.pdf; ComponentLink2Description: LM2598 Web Page; ComponentLink2URL: http://www.national.com/pf/LM/LM2598.html; ComponentLink3Description: TS7B Package Page; ComponentLink3URL: http://www.national.com/packaging/folders/ts7b.html
footprint TS7B_N (D2-PAK, 8-Leads, Body 8.6x10.2mm, Pitch 1.27mm, Lead Span 14.1mm, IPC Medium Density)
footprint TS7B_L (D2-PAK, 8-Leads, Body 8.6x10.2mm, Pitch 1.27mm, Lead Span 14.1mm, IPC High Density)
footprint TS7B_M (D2-PAK, 8-Leads, Body 8.6x10.2mm, Pitch 1.27mm, Lead Span 14.1mm, IPC Low Density)
footprint TS7B_M (D2-PAK, 8-Leads, Body 8.6x10.2mm, Pitch 1.27mm, Lead Span 14.1mm, IPC Low Density)
pins: 1 OUT (power), 2 VIN (power), 3 FLAG (oc), 4 GND (power), 5 DELAY (in), 6 FB (in), 7 ~{SD}/SS (in), 8 TAB (power)

## LM2598S-5.0
designator U?
SIMPLE SWITCHER Power Converter 150 KHz 1A Step-Down Voltage Regulator, with Features; PartNumber: LM2598S-5.0; Manufacturer: National Semiconductor; PackageTopMarking: NSUZXYTT*LM2598S*-5.0 P+; PowerWise: N; Published: 4-Dec-2008; DatasheetVersion: Jan-2001; PackageVersion: revE, Jul-2003; PackageReference: TS7B; Publisher: Altium Limited; PackageDescription: TO-263, Molded, .400 x .390 x .180in Body, 7 Lead, .050in Pitch, Surface Mount; CompType: Switcher; RoHS: O; PinCount: 7; DigiKeyPartNumber: LM2598S-5.0-ND; Code_JEDEC: MO-169-AC; ComponentLink1Description: LM2598 Datasheet; ComponentLink1URL: http://www.national.com/ds/LM/LM2598.pdf; ComponentLink2Description: LM2598 Web Page; ComponentLink2URL: http://www.national.com/pf/LM/LM2598.html; ComponentLink3Description: TS7B Package Page; ComponentLink3URL: http://www.national.com/packaging/folders/ts7b.html
footprint TS7B_N (D2-PAK, 8-Leads, Body 8.6x10.2mm, Pitch 1.27mm, Lead Span 14.1mm, IPC Medium Density)
footprint TS7B_L (D2-PAK, 8-Leads, Body 8.6x10.2mm, Pitch 1.27mm, Lead Span 14.1mm, IPC High Density)
footprint TS7B_M (D2-PAK, 8-Leads, Body 8.6x10.2mm, Pitch 1.27mm, Lead Span 14.1mm, IPC Low Density)
footprint TS7B_M (D2-PAK, 8-Leads, Body 8.6x10.2mm, Pitch 1.27mm, Lead Span 14.1mm, IPC Low Density)
pins: 1 OUT (power), 2 VIN (power), 3 FLAG (oc), 4 GND (power), 5 DELAY (in), 6 FB (in), 7 ~{SD}/SS (in), 8 TAB (power)

## LM2598S-12
designator U?
SIMPLE SWITCHER Power Converter 150 KHz 1A Step-Down Voltage Regulator, with Features; PartNumber: LM2598S-12; Manufacturer: National Semiconductor; PackageTopMarking: NSUZXYTT*LM2598S*-12 P+; PowerWise: N; Published: 4-Dec-2008; DatasheetVersion: Jan-2001; PackageVersion: revE, Jul-2003; PackageReference: TS7B; Publisher: Altium Limited; PackageDescription: TO-263, Molded, .400 x .390 x .180in Body, 7 Lead, .050in Pitch, Surface Mount; CompType: Switcher; RoHS: Y; PinCount: 7; DigiKeyPartNumber: LM2598S-12-ND; Code_JEDEC: MO-169-AC; ComponentLink1Description: LM2598 Datasheet; ComponentLink1URL: http://www.national.com/ds/LM/LM2598.pdf; ComponentLink2Description: LM2598 Web Page; ComponentLink2URL: http://www.national.com/pf/LM/LM2598.html; ComponentLink3Description: TS7B Package Page; ComponentLink3URL: http://www.national.com/packaging/folders/ts7b.html
footprint TS7B_N (D2-PAK, 8-Leads, Body 8.6x10.2mm, Pitch 1.27mm, Lead Span 14.1mm, IPC Medium Density)
footprint TS7B_L (D2-PAK, 8-Leads, Body 8.6x10.2mm, Pitch 1.27mm, Lead Span 14.1mm, IPC High Density)
footprint TS7B_M (D2-PAK, 8-Leads, Body 8.6x10.2mm, Pitch 1.27mm, Lead Span 14.1mm, IPC Low Density)
footprint TS7B_M (D2-PAK, 8-Leads, Body 8.6x10.2mm, Pitch 1.27mm, Lead Span 14.1mm, IPC Low Density)
pins: 1 OUT (power), 2 VIN (power), 3 FLAG (oc), 4 GND (power), 5 DELAY (in), 6 FB (in), 7 ~{SD}/SS (in), 8 TAB (power)

## LM2598S-ADJ
designator U?
SIMPLE SWITCHER Power Converter 150 KHz 1A Step-Down Voltage Regulator, with Features; PartNumber: LM2598S-ADJ; Manufacturer: National Semiconductor; PackageTopMarking: NSUZXYTT*LM2598S*-ADJ P+; PowerWise: N; Published: 4-Dec-2008; DatasheetVersion: Jan-2001; PackageVersion: revE, Jul-2003; PackageReference: TS7B; Publisher: Altium Limited; PackageDescription: TO-263, Molded, .400 x .390 x .180in Body, 7 Lead, .050in Pitch, Surface Mount; CompType: Switcher; RoHS: O; PinCount: 7; DigiKeyPartNumber: LM2598S-ADJ-ND; Code_JEDEC: MO-169-AC; ComponentLink1Description: LM2598 Datasheet; ComponentLink1URL: http://www.national.com/ds/LM/LM2598.pdf; ComponentLink2Description: LM2598 Web Page; ComponentLink2URL: http://www.national.com/pf/LM/LM2598.html; ComponentLink3Description: TS7B Package Page; ComponentLink3URL: http://www.national.com/packaging/folders/ts7b.html
footprint TS7B_N (D2-PAK, 8-Leads, Body 8.6x10.2mm, Pitch 1.27mm, Lead Span 14.1mm, IPC Medium Density)
footprint TS7B_L (D2-PAK, 8-Leads, Body 8.6x10.2mm, Pitch 1.27mm, Lead Span 14.1mm, IPC High Density)
footprint TS7B_M (D2-PAK, 8-Leads, Body 8.6x10.2mm, Pitch 1.27mm, Lead Span 14.1mm, IPC Low Density)
footprint TS7B_M (D2-PAK, 8-Leads, Body 8.6x10.2mm, Pitch 1.27mm, Lead Span 14.1mm, IPC Low Density)
pins: 1 OUT (power), 2 VIN (power), 3 FLAG (oc), 4 GND (power), 5 DELAY (in), 6 FB (in), 7 ~{SD}/SS (in), 8 TAB (power)

## LM2598T-3.3
designator U?
SIMPLE SWITCHER Power Converter 150 KHz 1A Step-Down Voltage Regulator, with Features; PartNumber: LM2598T-3.3; Manufacturer: National Semiconductor; PackageTopMarking: NSUZXYTT*LM2598T*-3.3 P+; PowerWise: N; Published: 4-Dec-2008; DatasheetVersion: Jan-2001; PackageVersion: revC, Apr-1999; PackageReference: TA07B; Publisher: Altium Limited; PackageDescription: TO-220, Molded, .400 x .590 x .180in Body, 7 Lead, .050in Pitch, Staggered; CompType: Switcher; RoHS: Y; PinCount: 7; DigiKeyPartNumber: LM2598T-3.3-ND; Code_JEDEC: TO-220-AB; ComponentLink1Description: LM2598 Datasheet; ComponentLink1URL: http://www.national.com/ds/LM/LM2598.pdf; ComponentLink2Description: LM2598 Web Page; ComponentLink2URL: http://www.national.com/pf/LM/LM2598.html; ComponentLink3Description: TA07B Package Page; ComponentLink3URL: http://www.national.com/packaging/folders/ta07b.html
footprint TA07B (TO, Thru-Hole, Vertical, Heatsink Mounted; 7 Bent Staggered Leads; Pitch 1.27 mm)
pins: 1 OUT (power), 2 VIN (power), 3 FLAG (oc), 4 GND (power), 5 DELAY (in), 6 FB (in), 7 ~{SD}/SS (in)

## LM2598T-5.0
designator U?
SIMPLE SWITCHER Power Converter 150 KHz 1A Step-Down Voltage Regulator, with Features; PartNumber: LM2598T-5.0; Manufacturer: National Semiconductor; PackageTopMarking: NSUZXYTT*LM2598T*-5.0 P+; PowerWise: N; Published: 4-Dec-2008; DatasheetVersion: Jan-2001; PackageVersion: revC, Apr-1999; PackageReference: TA07B; Publisher: Altium Limited; PackageDescription: TO-220, Molded, .400 x .590 x .180in Body, 7 Lead, .050in Pitch, Staggered; CompType: Switcher; RoHS: Y; PinCount: 7; DigiKeyPartNumber: LM2598T-5.0-ND; Code_JEDEC: TO-220-AB; ComponentLink1Description: LM2598 Datasheet; ComponentLink1URL: http://www.national.com/ds/LM/LM2598.pdf; ComponentLink2Description: LM2598 Web Page; ComponentLink2URL: http://www.national.com/pf/LM/LM2598.html; ComponentLink3Description: TA07B Package Page; ComponentLink3URL: http://www.national.com/packaging/folders/ta07b.html
footprint TA07B (TO, Thru-Hole, Vertical, Heatsink Mounted; 7 Bent Staggered Leads; Pitch 1.27 mm)
pins: 1 OUT (power), 2 VIN (power), 3 FLAG (oc), 4 GND (power), 5 DELAY (in), 6 FB (in), 7 ~{SD}/SS (in)

## LM2598T-12
designator U?
SIMPLE SWITCHER Power Converter 150 KHz 1A Step-Down Voltage Regulator, with Features; PartNumber: LM2598T-12; Manufacturer: National Semiconductor; PackageTopMarking: NSUZXYTT*LM2598T*-12 P+; PowerWise: N; Published: 4-Dec-2008; DatasheetVersion: Jan-2001; PackageVersion: revC, Apr-1999; PackageReference: TA07B; Publisher: Altium Limited; PackageDescription: TO-220, Molded, .400 x .590 x .180in Body, 7 Lead, .050in Pitch, Staggered; CompType: Switcher; RoHS: Y; PinCount: 7; DigiKeyPartNumber: LM2598T-12-ND; Code_JEDEC: TO-220-AB; ComponentLink1Description: LM2598 Datasheet; ComponentLink1URL: http://www.national.com/ds/LM/LM2598.pdf; ComponentLink2Description: LM2598 Web Page; ComponentLink2URL: http://www.national.com/pf/LM/LM2598.html; ComponentLink3Description: TA07B Package Page; ComponentLink3URL: http://www.national.com/packaging/folders/ta07b.html
footprint TA07B (TO, Thru-Hole, Vertical, Heatsink Mounted; 7 Bent Staggered Leads; Pitch 1.27 mm)
pins: 1 OUT (power), 2 VIN (power), 3 FLAG (oc), 4 GND (power), 5 DELAY (in), 6 FB (in), 7 ~{SD}/SS (in)